# Altium footprint library KLS5-18650-D.PcbLib: 1 footprints
Each footprint in its own frame and in the unit in brackets; x right, y up, seen from the top. Pads: shape width x height; smd on the part's side, far side on the other; paste and mask are expansions set on the pad; w line width, h text height; cw(c..) or ccw(c..) is an arc to the next point about the centre after c.
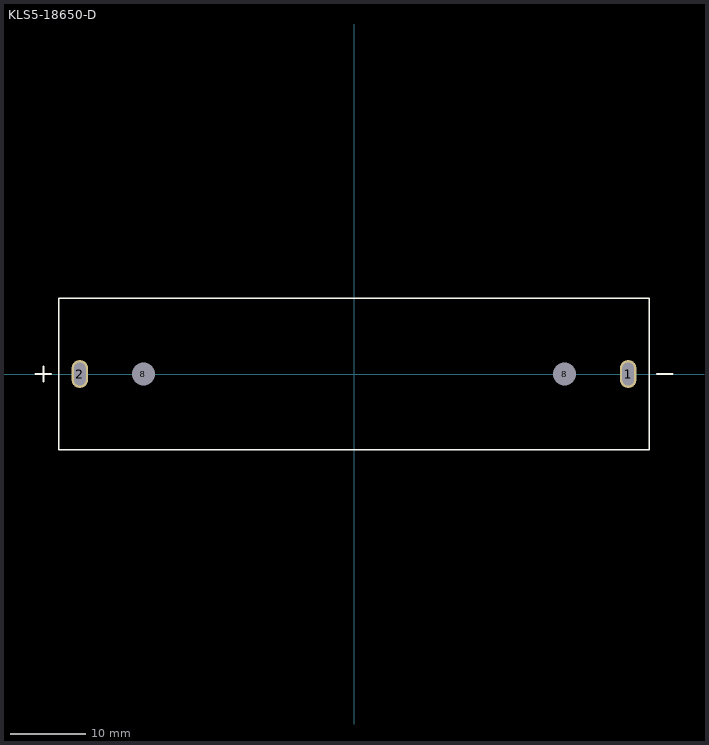
[diagram p0: the footprint, top view; thin cyan lines are the x and y axes]

## KLS5-18650-D [mm]
pads (4):
  oval 2.2x3.7 hole 3 slot 1.5 at 0 deg: 1(36.185,0) 2(-36.185,0)
  round 1.524 hole 3 unplated: 8(-27.8,0) 8(27.8,0)
Top Overlay:
  lines w0.2: -39,-10 -39,0 -39,10 39,10 39,-10 -39,-10
  lines w0.3: -42,0 -41,0 ; -41,-1 -41,0 ; -41,1 -41,0 ; -40,0 -41,0 ; 40,0 41,0 42,0
3D body "Hold_18650-1p.stp": height 21.5, standoff -4, extent -39,-10 39,10